# Altium footprint library EtherIOv2.PcbLib: 62 footprints (part 1 of 4)
Each footprint in its own frame and in the unit in brackets; x right, y up, seen from the top. Pads: shape width x height; smd on the part's side, far side on the other; paste and mask are expansions set on the pad; w line width, h text height; cw(c..) or ccw(c..) is an arc to the next point about the centre after c.
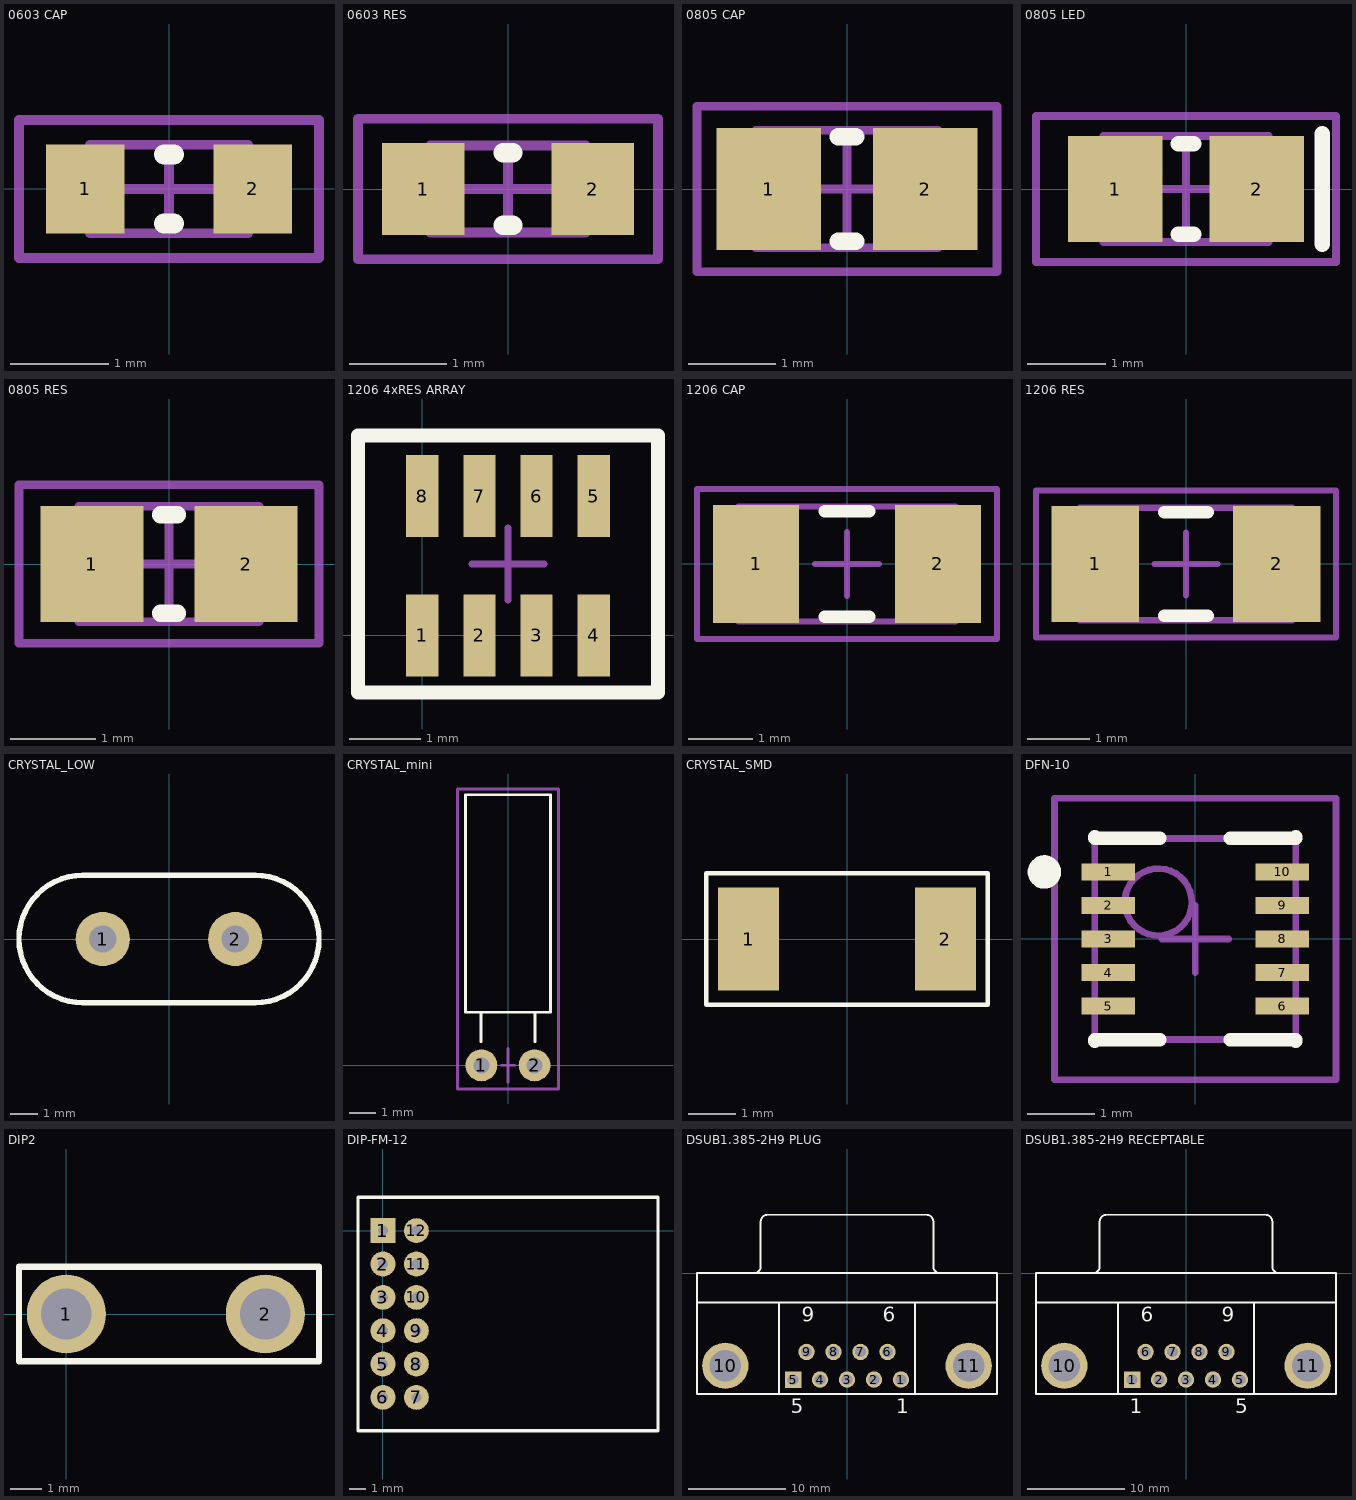
[diagram p0: the footprints below, top view; thin cyan lines are the x and y axes]

## 0603 CAP [mm] "Chip Capacitor, 2-Leads, Body 1,6x0,8mm, IPC Medium Density"
height 1
pads (2):
  rect 0.8x0.9 smd: 1(-0.85,0) 2(0.85,0)
Top Overlay:
  lines w0.2: -0.05,-0.35 0.05,-0.35 ; -0.05,0.35 0.05,0.35
Mechanical 13:
  lines w0.1: -0.805,-0.45 -0.805,0.45 0.805,0.45 0.805,-0.45 -0.805,-0.45
Mechanical 15:
  lines w0.1: -0.45,0 0.45,0 ; 0,-0.45 0,0.45 ; -1.525,-0.7 -1.525,0.7 1.525,0.7 1.525,-0.7 -1.525,-0.7
3D body: height 1, standoff 0, extent -0.805,-0.45 0.805,0.45

## 0603 RES [mm] "Chip Resistor, 2-Leads, Body 1,6x0,8mm, IPC Medium Density"
height 0.55
pads (2):
  rect 0.85x0.95 smd: 1(-0.875,0) 2(0.875,0)
Top Overlay:
  lines w0.2: -0.05,-0.375 0.05,-0.375 ; -0.05,0.375 0.05,0.375
Mechanical 13:
  lines w0.1: -0.805,-0.45 -0.805,0.45 0.805,0.45 0.805,-0.45 -0.805,-0.45
Mechanical 15:
  lines w0.1: -0.45,0 0.45,0 ; 0,-0.45 0,0.45 ; -1.55,-0.725 -1.55,0.725 1.55,0.725 1.55,-0.725 -1.55,-0.725
3D body: height 0.55, standoff 0, extent -0.805,-0.45 0.805,0.45

## 0805 CAP [mm] "Chip Capacitor, 2-Leads, Body 2,0x1,3mm, IPC Medium Density"
height 1.35
pads (2):
  rect 1.2x1.4 smd: 1(-0.9,0) 2(0.9,0)
Top Overlay:
  lines w0.2: -0.1,-0.6 0.1,-0.6 ; -0.1,0.6 0.1,0.6
Mechanical 13:
  lines w0.1: -1.05,-0.675 -1.05,0.675 1.05,0.675 1.05,-0.675 -1.05,-0.675
Mechanical 15:
  lines w0.1: -0.5,0 0.5,0 ; 0,-0.5 0,0.5 ; -1.725,-0.95 -1.725,0.95 1.725,0.95 1.725,-0.95 -1.725,-0.95
3D body: height 1.35, standoff 0, extent -1.05,-0.675 1.05,0.675

## 0805 LED [mm] "SMD LED, 2-Leads, Body 2,0x1,3mm, IPC Medium Density"
height 1.35
pads (2):
  rect 1.2x1.35 smd: 1(-0.9,0) 2(0.9,0)
Top Overlay:
  lines w0.2: -0.1,-0.575 0.1,-0.575 ; -0.1,0.575 0.1,0.575 ; 1.73,-0.7 1.73,0.7
Mechanical 13:
  lines w0.1: -1.05,-0.675 1.05,-0.675 1.05,0.675 -1.05,0.675 -1.05,-0.675
Mechanical 15:
  lines w0.1: -0.5,0 0.5,0 ; 0,-0.5 0,0.5 ; -1.905,-0.925 1.905,-0.925 1.905,0.925 -1.905,0.925 -1.905,-0.925
3D body: height 1.35, standoff 0, extent -1.05,-0.675 1.05,0.675

## 0805 RES [mm] "Chip Resistor, 2-Leads, Body 2,0x1,3mm, IPC Medium Density"
height 1.35
pads (2):
  rect 1.2x1.35 smd: 1(-0.9,0) 2(0.9,0)
Top Overlay:
  lines w0.2: -0.1,-0.575 0.1,-0.575 ; -0.1,0.575 0.1,0.575
Mechanical 13:
  lines w0.1: -1.05,-0.675 -1.05,0.675 1.05,0.675 1.05,-0.675 -1.05,-0.675
Mechanical 15:
  lines w0.1: -0.5,0 0.5,0 ; 0,-0.5 0,0.5 ; -1.75,-0.925 -1.75,0.925 1.75,0.925 1.75,-0.925 -1.75,-0.925
3D body: height 1.35, standoff 0, extent -1.05,-0.675 1.05,0.675

## 1206 4xRES ARRAY [mm] "Chip Resistor, 2-Leads, Body 3,2x1,6mm, IPC Medium Density"
height 1.8
pads (8):
  rect 0.45x1.15 smd: 1(0,0) 2(0.8,0) 3(1.6,0) 4(2.4,0) 5(2.4,1.95) 6(1.6,1.95) 7(0.8,1.95) 8(0,1.95)
Top Overlay:
  lines w0.2: -0.9,-0.8 -0.9,2.8 3.3,2.8 3.3,-0.8 -0.9,-0.8
Mechanical 15:
  lines w0.1: 0.7,1 1.7,1 ; 1.2,0.5 1.2,1.5 ; -0.9,-0.8 -0.9,2.8 3.3,2.8 3.3,-0.8 -0.9,-0.8

## 1206 CAP [mm] "Chip Capacitor, 2-Leads, Body 3,2x1,6mm, IPC Medium Density"
height 1.8
pads (2):
  rect 1.35x1.85 smd: 1(-1.425,0) 2(1.425,0)
Top Overlay:
  lines w0.2: -0.35,-0.825 0.35,-0.825 ; -0.35,0.825 0.35,0.825
Mechanical 13:
  lines w0.1: -1.7,-0.9 -1.7,0.9 1.7,0.9 1.7,-0.9 -1.7,-0.9
Mechanical 15:
  lines w0.1: -0.5,0 0.5,0 ; 0,-0.5 0,0.5 ; -2.35,-1.175 -2.35,1.175 2.35,1.175 2.35,-1.175 -2.35,-1.175
3D body: height 1.8, standoff 0, extent -1.7,-0.9 1.7,0.9

## 1206 RES [mm] "Chip Resistor, 2-Leads, Body 3,2x1,6mm, IPC Medium Density"
height 1.8
pads (2):
  rect 1.4x1.85 smd: 1(-1.45,0) 2(1.45,0)
Top Overlay:
  lines w0.2: -0.35,-0.825 0.35,-0.825 ; -0.35,0.825 0.35,0.825
Mechanical 13:
  lines w0.1: -1.7,-0.9 1.7,-0.9 1.7,0.9 -1.7,0.9 -1.7,-0.9
Mechanical 15:
  lines w0.1: -0.5,0 0.5,0 ; 0,-0.5 0,0.5 ; -2.4,-1.175 2.4,-1.175 2.4,1.175 -2.4,1.175 -2.4,-1.175
3D body: height 1.8, standoff 0, extent -1.7,-0.9 1.7,0.9

## CRYSTAL_LOW [mm]
pads (2):
  round 2 hole 1: 1(-2.44,0) 2(2.44,0)
Top Overlay:
  lines w0.2: -3.175,-2.35 cw(c-3.175,0) -3.175,2.35 3.175,2.35 cw(c3.175,0) 3.175,-2.35 -3.175,-2.35

## CRYSTAL_mini [mm] "Furatszerelt D-3.1x8.2"
pads (2):
  round 1.2 hole 0.6: 1(-1,0) 2(1,0)
Top Overlay:
  lines w0.1: -1.016,0.889 -1.016,2 ; 1.016,0.889 1.016,2 ; -1.6,2 -1.6,10.2 1.6,10.2 1.6,2 -1.6,2
Mechanical 15:
  lines w0.1: -0.254,0 0.254,0 ; 0,-0.635 0,0.635 ; -1.905,-0.889 -1.905,10.414 1.905,10.414 1.905,-0.889 -1.905,-0.889

## CRYSTAL_SMD [mm]
pads (2):
  rect 1.3x2.2 smd: 1(-2.1,0) 2(2.1,0)
Top Overlay:
  lines w0.1: -3,-1.4 -3,1.4 3,1.4 3,-1.4 -3,-1.4

## DFN-10 [mm]
height 1
pads (10):
  rect 0.8x0.25 smd: 1(-1.3,1) 2(-1.3,0.5) 3(-1.3,0) 4(-1.3,-0.5) 5(-1.3,-1) 6(1.3,-1) 7(1.3,-0.5) 8(1.3,0) 9(1.3,0.5) 10(1.3,1)
Top Overlay:
  circle w0.25: c-2.25,1 r0.125
  lines w0.2: -1.5,-1.525 -1.5,-1.5 -0.525,-1.5 ; -1.5,1.525 -1.5,1.5 -0.525,1.5 ; 0.525,-1.5 1.5,-1.5 1.5,-1.525 ; 0.525,1.5 1.5,1.5 1.5,1.525
Mechanical 13:
  circle w0.1: c-0.55,0.55 r0.5
  lines w0.1: -1.5,-1.5 -1.5,1.5 1.5,1.5 1.5,-1.5 -1.5,-1.5
Mechanical 15:
  lines w0.1: -0.5,0 0.5,0 ; 0,-0.5 0,0.5 ; -2.1,-2.1 -2.1,2.1 2.1,2.1 2.1,-2.1 -2.1,-2.1
3D body: height 1, standoff 0.05, extent -1.5,-1.5 1.5,1.5

## DIP2 [mm]
pads (2):
  round 2.5 hole 1.6: 1(0,0) 2(6.3,0)
Top Overlay:
  lines w0.2: -1.5,-1.5 -1.5,1.5 8,1.5 8,-1.5 -1.5,-1.5

## DIP-FM-12 [mm]
pads (12):
  rect 1.5x1.5 hole 0.6: 1(0,0)
  round 1.5 hole 0.6: 2(0,-2) 3(0,-4) 4(0,-6) 5(0,-8) 6(0,-10) 7(2,-10) 8(2,-8) 9(2,-6) 10(2,-4) 11(2,-2) 12(2,0)
Top Overlay:
  lines w0.2: -1.5,-12 16.5,-12 16.5,2 -1.5,2 -1.5,-12

## DSUB1.385-2H9 PLUG [mm] "Connector; D Subminiature; Plug; 9 Position; Right Angle; Pitch 1.385 mm"
height 12.75
pads (11):
  round 1.69 hole 1.09: 1(5.54,-10.92) 2(2.77,-10.92) 3(0,-10.92) 4(-2.77,-10.92) 6(4.155,-8.08) 7(1.385,-8.08) 8(-1.385,-8.08) 9(-4.155,-8.08)
  rect 1.69x1.69 hole 1.09: 5(-5.54,-10.92)
  round 4.76 hole 3.26: 10(-12.495,-9.5) 11(12.495,-9.5)
Top Overlay:
  lines w0.2: -15.4,-3 15.4,-3 ; -9.56,0.005 ccw(c-9.56,0.7) -8.865,0.7 -8.865,5.3 ; -8.86,5.305 cw(c-8.165,5.305) -8.165,6 8.165,6 cw(c8.165,5.305) 8.86,5.305 ; -7,-12.4 -7,-3 ; 7,-12.4 7,-3 ; 8.865,5.3 8.865,0.7 ccw(c9.56,0.7) 9.56,0.005 ; -15.4,-12.4 15.4,-12.4 15.4,0 -15.4,0 -15.4,-12.4
  text "9" at -4.655,-4.975 h1.5
  text "6" at 3.655,-4.975 h1.5
  text "1" at 5.04,-14.375 h1.5
  text "5" at -5.79,-14.375 h1.5

## DSUB1.385-2H9 RECEPTABLE [mm] "Connector; D Subminiature; Receptable; 9 Position; Right Angle; Pitch 1.385 mm"
height 12.75
pads (11):
  rect 1.69x1.69 hole 1.09: 1(-5.54,-10.92)
  round 1.69 hole 1.09: 2(-2.77,-10.92) 3(0,-10.92) 4(2.77,-10.92) 5(5.54,-10.92) 6(-4.155,-8.08) 7(-1.385,-8.08) 8(1.385,-8.08) 9(4.155,-8.08)
  round 4.76 hole 3.26: 10(-12.495,-9.5) 11(12.495,-9.5)
Top Overlay:
  lines w0.2: -15.4,-3 15.4,-3 ; -9.56,0.005 ccw(c-9.56,0.7) -8.865,0.7 -8.865,5.3 ; -8.86,5.305 cw(c-8.165,5.305) -8.165,6 8.165,6 cw(c8.165,5.305) 8.86,5.305 ; -7,-12.4 -7,-3 ; 7,-12.4 7,-3 ; 8.865,5.3 8.865,0.7 ccw(c9.56,0.7) 9.56,0.005 ; -15.4,-12.4 15.4,-12.4 15.4,0 -15.4,0 -15.4,-12.4
  text "6" at -4.655,-4.975 h1.5
  text "9" at 3.655,-4.975 h1.5
  text "5" at 5.04,-14.375 h1.5
  text "1" at -5.79,-14.375 h1.5